# Altium schematic symbol library SCH - OPAMP - TI OPA355.SCHLIB: 1 symbol
Pins are listed as number, name and electrical type; pins without a type are passive.

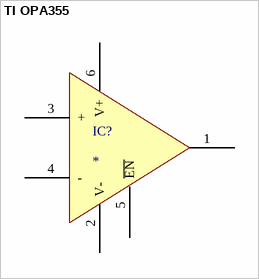
[diagram p0: symbol TI OPA355]

## TI OPA355
designator IC?
pins: 1 OUT, 2 V-, 3 +, 4 -, 5 ~{EN}, 6 V+